# Altium footprint library PcbLib1.PcbLib: 25 footprints (part 1 of 2)
Each footprint in its own frame and in the unit in brackets; x right, y up, seen from the top. Pads: shape width x height; smd on the part's side, far side on the other; paste and mask are expansions set on the pad; w line width, h text height; cw(c..) or ccw(c..) is an arc to the next point about the centre after c.
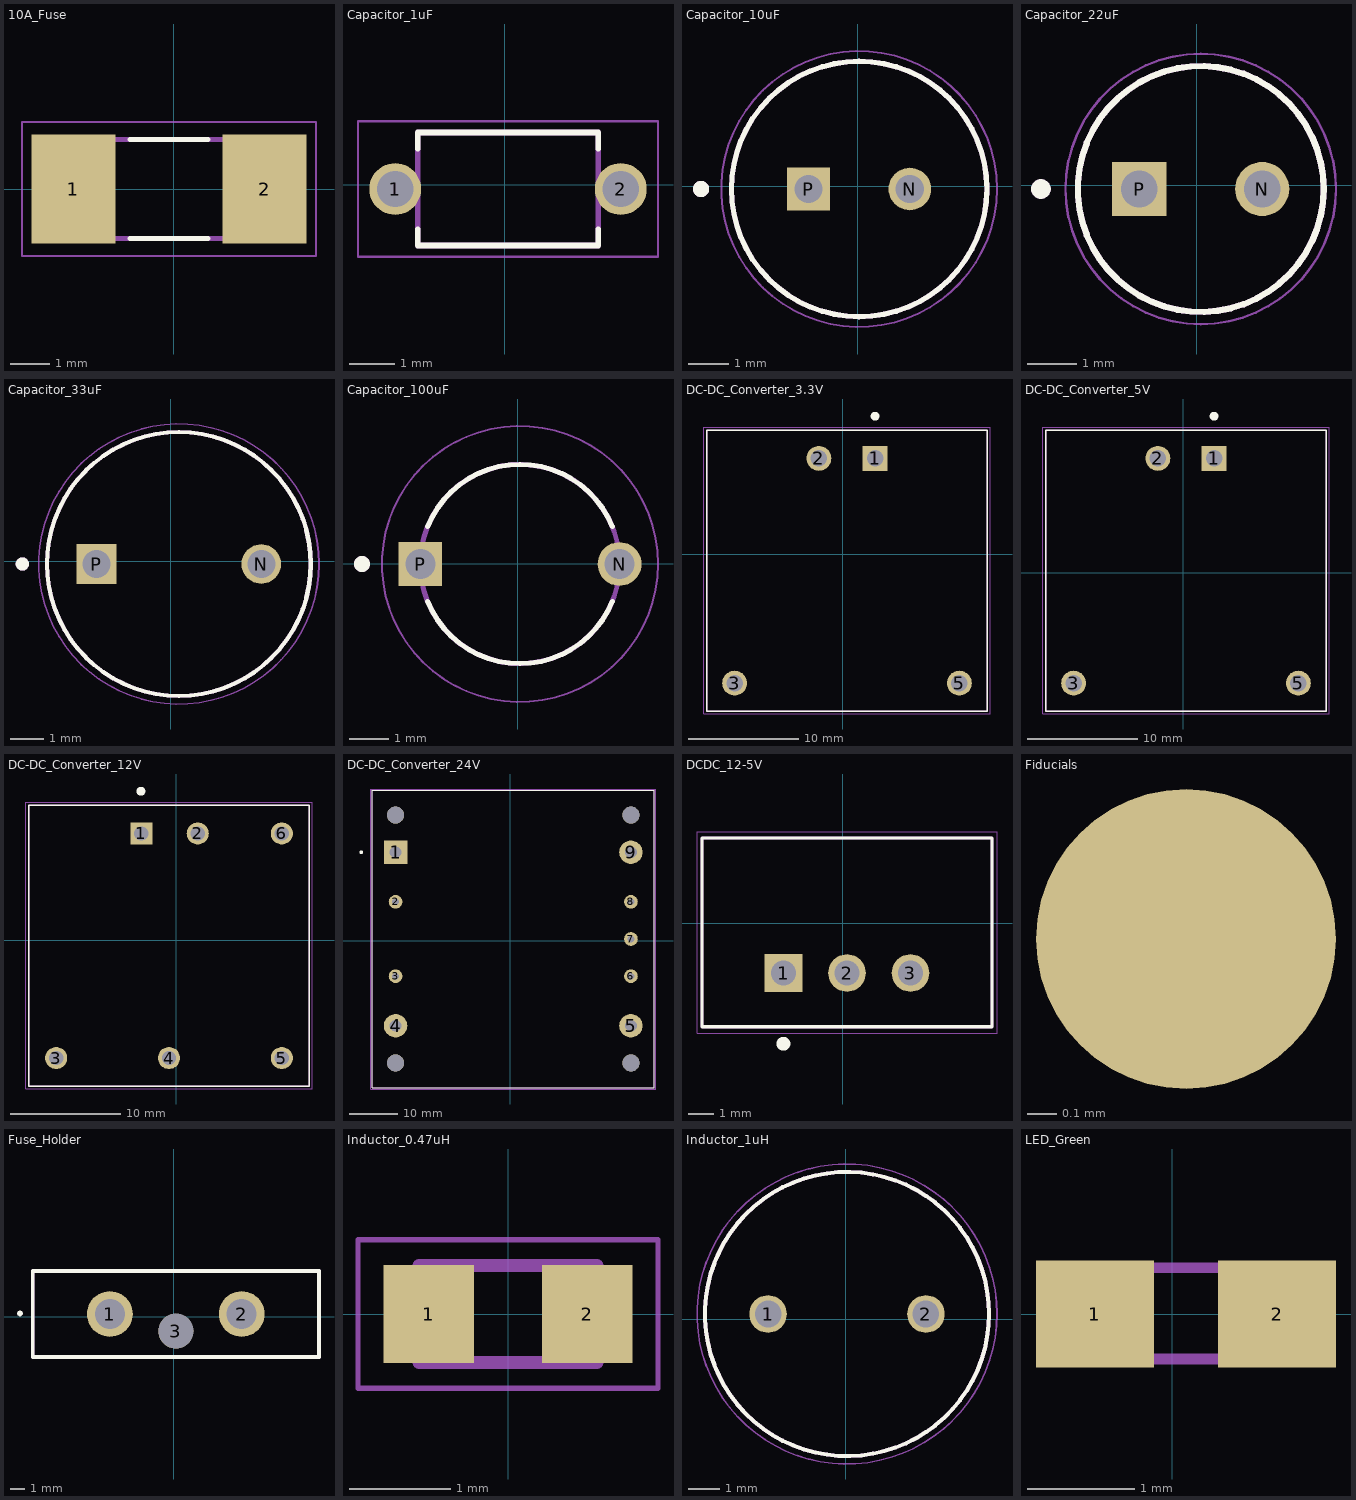
[diagram p0: the footprints below, top view; thin cyan lines are the x and y axes]

## 10A_Fuse [mm]
pads (2):
  rect 2.15x2.8 smd: 1(-2.582,0) 2(2.328,0)
Top Overlay:
  lines w0.127: -1.127,-1.27 0.873,-1.27 ; -1.127,1.27 0.873,1.27
Mechanical 13:
  lines w0.127: -3.177,-1.27 -3.177,1.27 2.923,1.27 2.923,-1.27 -3.177,-1.27
Mechanical 15:
  lines w0.05: -3.907,-1.72 3.653,-1.72 3.653,1.72 -3.907,1.72 -3.907,-1.72

## Capacitor_1uF [mm]
pads (2):
  round 1.15 hole 0.8: 1(-2.433,-0.097) 2(2.567,-0.097)
Top Overlay:
  lines w0.127: -1.933,-0.992 -1.933,-1.347 2.067,-1.347 2.067,-0.992 ; -1.933,0.798 -1.933,1.153 2.067,1.153 2.067,0.798
Mechanical 13:
  lines w0.127: -1.933,-1.347 2.067,-1.347 2.067,1.153 -1.933,1.153 -1.933,-1.347
Mechanical 15:
  lines w0.05: -3.258,-1.597 3.392,-1.597 3.392,1.403 -3.258,1.403 -3.258,-1.597

## Capacitor_10uF [mm]
pads (2):
  round 1.05 hole 0.7: N(1.279,-0.067)
  rect 1.05x1.05 hole 0.7: P(-1.221,-0.067)
Top Overlay:
  circle w0.127: c0.029,-0.067 r3.15
  circle w0.2: c-3.871,-0.067 r0.1
Mechanical 13:
  circle w0.127: c0.029,-0.067 r3.15
  circle w0.2: c-3.871,-0.067 r0.1
Mechanical 15:
  circle w0.05: c0.029,-0.067 r3.4
3D body "step_temp.STEP": height 5, standoff -17, extent -3.121,-3.215 3.179,3.081

## Capacitor_22uF [mm]
pads (2):
  round 1.1 hole 0.75: N(1.333,-0.075)
  rect 1.1x1.1 hole 0.75: P(-1.167,-0.075)
Top Overlay:
  circle w0.2: c-3.167,-0.075 r0.1
  circle w0.127: c0.083,-0.075 r2.5
Mechanical 13:
  circle w0.2: c-3.167,-0.075 r0.1
  circle w0.127: c0.083,-0.075 r2.5
Mechanical 15:
  circle w0.05: c0.083,-0.075 r2.75
3D body "step_temp.STEP": height 11, standoff -17, extent -2.417,-2.573 2.583,2.423

## Capacitor_33uF [mm]
pads (2):
  round 1.2 hole 0.85: N(2.741,-0.082)
  rect 1.2x1.2 / inner round 1.2 / far side rect 1.2x1.2 hole 0.85: P(-2.259,-0.082)
Top Overlay:
  circle w0.2: c-4.509,-0.082 r0.1
  circle w0.127: c0.241,-0.082 r4
Mechanical 13:
  circle w0.2: c-4.509,-0.082 r0.1
  circle w0.127: c0.241,-0.082 r4
Mechanical 15:
  circle w0.05: c0.241,-0.082 r4.25
3D body "step_temp.STEP": height 11.5, standoff -17, extent -3.759,-4.082 4.241,3.918

## Capacitor_100uF [mm]
pads (2):
  round 1.1 hole 0.75: N(2.56,-0.007)
  rect 1.1x1.1 hole 0.75: P(-2.44,-0.007)
Top Overlay:
  circle w0.2: c-3.903,-0.007 r0.1
  lines w0.127: -2.258,-0.943 ccw(c0.06,-0.006) 2.378,-0.943 ; -2.258,0.93 cw(c0.06,-0.007) 2.378,0.93
Mechanical 13:
  circle w0.127: c0.06,-0.007 r2.5
  circle w0.2: c-3.903,-0.007 r0.1
Mechanical 15:
  circle w0.05: c0.06,-0.007 r3.463
3D body "step_temp.STEP": height 11, standoff -17, extent -2.69,-2.504 2.81,2.491

## DC-DC_Converter_3.3V [mm]
pads (4):
  rect 2.25x2.25 hole 1.5: 1(2.926,8.66)
  round 2.25 hole 1.5: 2(-2.154,8.66) 3(-9.774,-11.66) 5(10.546,-11.66)
Top Overlay:
  circle w0.4: c2.926,12.47 r0.2
  lines w0.127: -12.314,-14.2 13.086,-14.2 13.086,11.2 -12.314,11.2 -12.314,-14.2
Mechanical 13:
  lines w0.127: -12.314,-14.2 13.086,-14.2 13.086,11.2 -12.314,11.2 -12.314,-14.2
Mechanical 15:
  lines w0.05: -12.564,-14.45 13.336,-14.45 13.336,11.45 -12.564,11.45 -12.564,-14.45

## DC-DC_Converter_5V [mm]
pads (4):
  rect 2.25x2.25 hole 1.5: 1(2.783,10.334)
  round 2.25 hole 1.5: 2(-2.297,10.334) 3(-9.917,-9.986) 5(10.403,-9.986)
Top Overlay:
  circle w0.4: c2.783,14.144 r0.2
  lines w0.127: -12.457,-12.526 12.943,-12.526 12.943,12.874 -12.457,12.874 -12.457,-12.526
Mechanical 13:
  lines w0.127: -12.457,-12.526 12.943,-12.526 12.943,12.874 -12.457,12.874 -12.457,-12.526
Mechanical 15:
  lines w0.05: -12.707,-12.776 13.193,-12.776 13.193,13.124 -12.707,13.124 -12.707,-12.776

## DC-DC_Converter_12V [mm]
pads (6):
  rect 2x2 hole 1.3: 1(-3.135,9.642)
  round 2 hole 1.3: 2(1.965,9.642) 3(-10.835,-10.658) 4(-0.635,-10.658) 5(9.565,-10.658) 6(9.565,9.642)
Top Overlay:
  circle w0.4: c-3.175,13.462 r0.2
  lines w0.127: -13.335,-13.208 12.065,-13.208 12.065,12.192 -13.335,12.192 -13.335,-13.208
Mechanical 13:
  circle w0.4: c-3.175,9.652 r0.2
  lines w0.127: -13.335,-13.208 -13.335,12.192 12.065,12.192 12.065,-13.208 -13.335,-13.208
Mechanical 15:
  lines w0.05: -13.585,-13.458 12.315,-13.458 12.315,12.442 -13.585,12.442 -13.585,-13.458

## DC-DC_Converter_24V [mm]
pads (13):
  rect 4.8x4.8 hole 2.4: 1(-23.49,18.161)
  round 2.8 hole 1.4: 2(-23.49,8.001) 3(-23.49,-7.239) 6(24.76,-7.239) 7(24.76,0.381) 8(24.76,8.001)
  round 4.8 hole 2.4: 4(-23.49,-17.399) 5(24.76,-17.399) 9(24.76,18.161)
  round 3.5 hole 3.5 unplated: ""(-23.49,-25.019) ""(-23.49,25.781) ""(24.76,-25.019) ""(24.76,25.781)
Top Overlay:
  circle w0.4: c-30.515,18.161 r0.2
  lines w0.127: -28.315,-30.119 -28.315,30.881 29.585,30.881 29.585,-30.119 -28.315,-30.119
Mechanical 13:
  circle w0.4: c-23.53,18.161 r0.2
  lines w0.127: -28.315,-30.119 -28.315,30.881 29.585,30.881 29.585,-30.119 -28.315,-30.119
Mechanical 15:
  lines w0.05: -28.565,-30.369 29.835,-30.369 29.835,31.131 -28.565,31.131 -28.565,-30.369
3D body "step_temp.STEP": height 13.2, standoff -4.6, extent -28.315,-30.119 29.585,30.881

## DCDC_12-5V [mm]
pads (3):
  rect 1.508x1.508 hole 1: 1(-2.368,-1.991)
  round 1.508 hole 1: 2(0.172,-1.991) 3(2.712,-1.991)
Top Overlay:
  circle w0.35: c-2.371,-4.821 r0.1
  lines w0.127: -5.628,-4.141 5.972,-4.141 5.972,3.409 -5.628,3.409 -5.628,-4.141
Mechanical 13:
  circle w0.35: c-2.371,-2.011 r0.1
  lines w0.127: -5.628,-4.141 5.972,-4.141 5.972,3.409 -5.628,3.409 -5.628,-4.141
Mechanical 15:
  lines w0.05: -5.828,-4.391 6.172,-4.391 6.172,3.659 -5.828,3.659 -5.828,-4.391

## Fiducials [mil]
pads (1):
  round 40 smd paste-30 mask+30: ""(160,95)

## Fuse_Holder [mm]
pads (3):
  round 3.2 hole 2.1: 1(-4.473,0.184) 2(4.727,0.184)
  round 2.45 hole 2.45 unplated: 3(0.127,-1.016)
Top Overlay:
  circle w0.254: c-10.752,0.221 r0.07
  lines w0.254: -9.873,-2.816 -9.873,3.184 10.127,3.184 10.127,-2.816 -9.873,-2.816
Mechanical 13:
  lines w0.254: -9.873,-2.816 10.127,-2.816 10.127,3.184 -9.873,3.184 -9.873,-2.816

## Inductor_0.47uH [mm]
pads (2):
  rect 0.9x0.97 smd: 1(-0.785,0) 2(0.785,0)
Mechanical 13:
  lines w0.127: -0.88,-0.48 0.88,-0.48 0.88,0.48 -0.88,0.48 -0.88,-0.48
Mechanical 15:
  lines w0.05: -1.485,-0.735 1.485,-0.735 1.485,0.735 -1.485,0.735 -1.485,-0.735
3D body "step_temp.STEP": height 0.4, standoff -0.4, extent -0.8,-0.4 0.8,0.4

## Inductor_1uH [mm]
pads (2):
  round 1.19 hole 0.84: 1(-2.453,0.161) 2(2.547,0.161)
Top Overlay:
  circle w0.127: c0.047,0.161 r4.5
Mechanical 13:
  circle w0.127: c0.047,0.161 r4.5
Mechanical 15:
  circle w0.05: c0.047,0.161 r4.75

## LED_Green [mm]
pads (2):
  rect 1.1x1 smd: 1(-0.723,0) 2(0.977,0)
Mechanical 13:
  region: 0.957,-0.471 0.458,-0.471 0.458,0.48 0.957,0.48
  region: -0.211,-0.471 -0.713,-0.471 -0.713,0.48 -0.211,0.48
  lines w0.102: -0.229,-0.419 0.483,-0.419 ; -0.229,0.432 0.483,0.432